# Altium footprint library EReference-PCB.PcbLib: 54 footprints (part 2 of 4)
Each footprint in its own frame and in the unit in brackets; x right, y up, seen from the top. Pads: shape width x height; smd on the part's side, far side on the other; paste and mask are expansions set on the pad; w line width, h text height; cw(c..) or ccw(c..) is an arc to the next point about the centre after c.
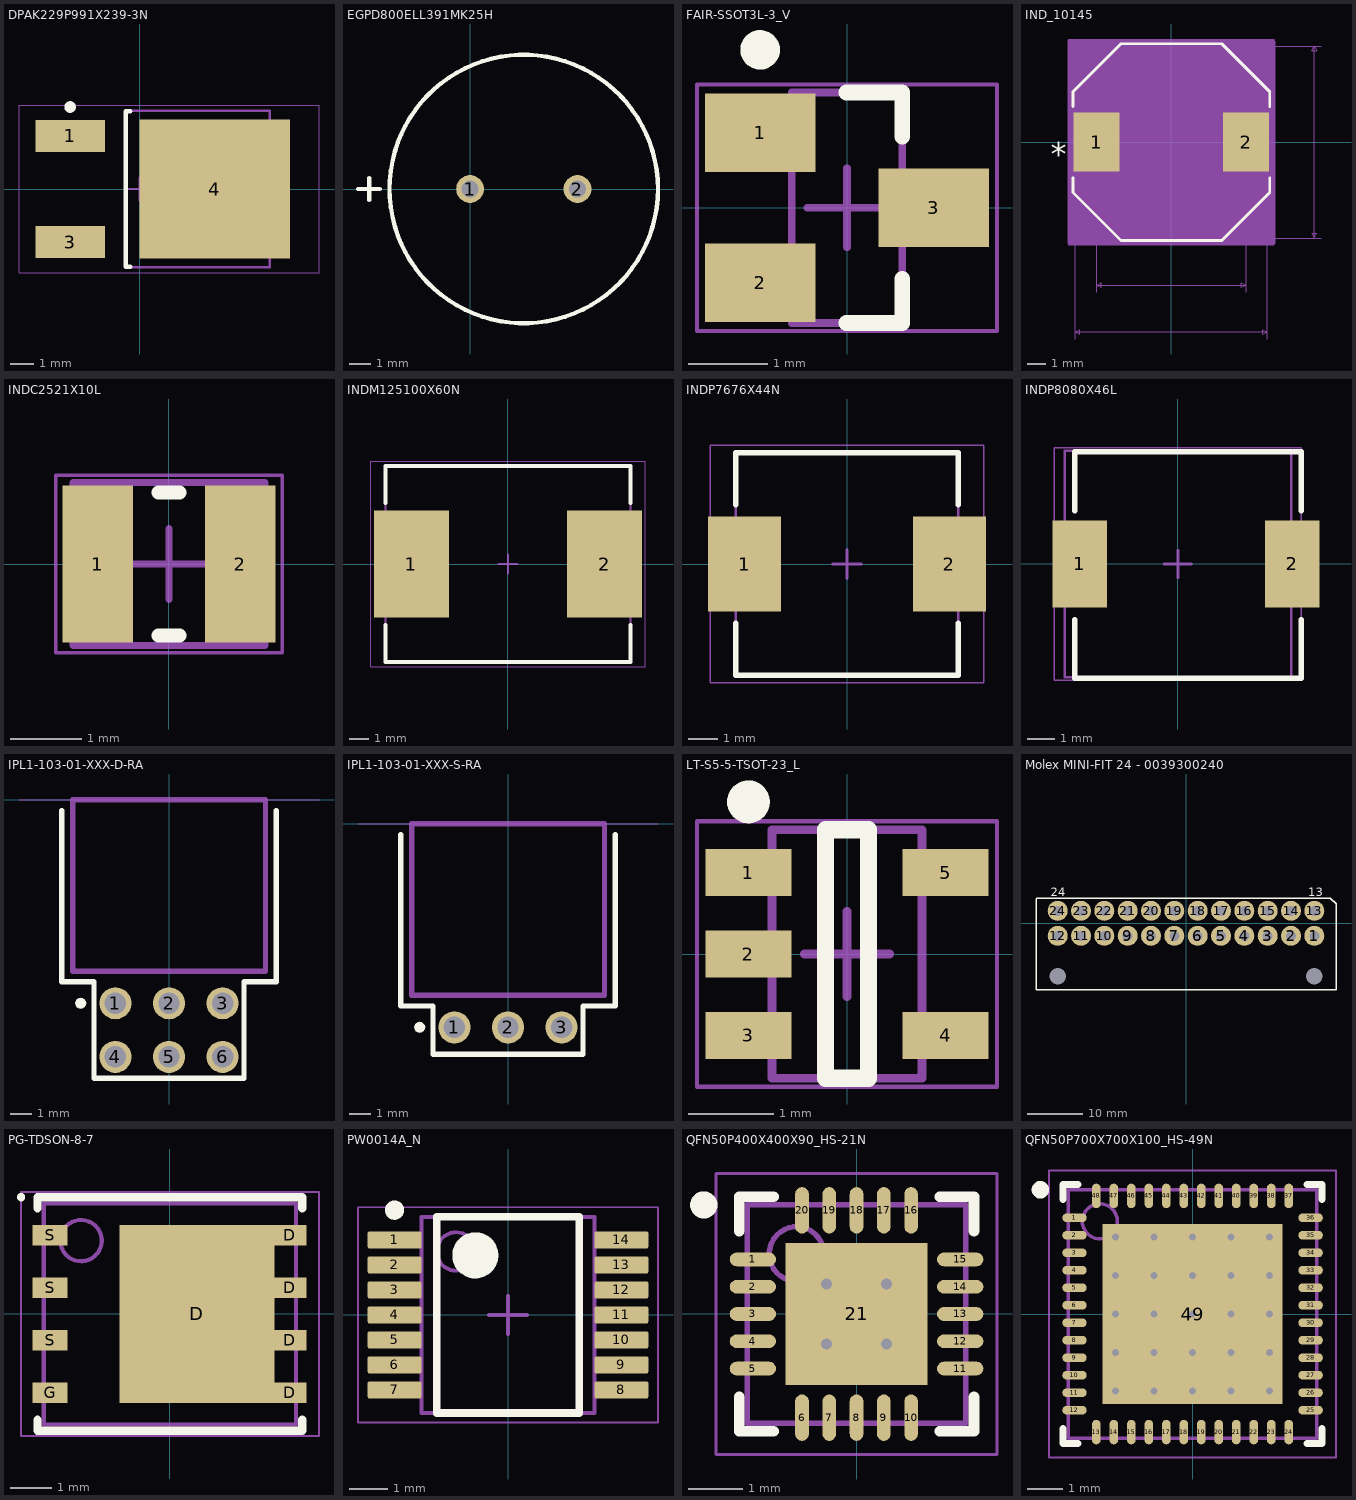
[diagram p1: the footprints below, top view; thin cyan lines are the x and y axes]

## DPAK229P991X239-3N [mm] "D-PAK, 3-Pads, Body 6.21x6.73mm (max), IPC Medium Density"
height 2.39
pads (3):
  rect 3x1.4 smd: 1(-3,2.29) 3(-3,-2.29)
  rect 6.5x6 smd: 4(3.25,0)
Top Overlay:
  circle w0.25: c-3,3.54 r0.125
  lines w0.2: -0.4,-3.35 -0.6,-3.35 -0.6,3.35 -0.4,3.35
Assembly:
  lines w0.1: -0.6,-3.375 5.62,-3.375 5.62,3.375 -0.6,3.375 -0.6,-3.375
Mechanical 15:
  lines w0.05: -5.207,-3.625 7.747,-3.625 7.747,3.625 -5.207,3.625 -5.207,-3.625
  lines w0.1: -0.5,0 0.5,0 ; 0,-0.5 0,0.5
3D body "DPAK229P991X239-3N.step": height 2.39, standoff 0, extent -2.44,-3.375 7.465,3.375

## EGPD800ELL391MK25H [mm]
pads (2):
  round 1.3 hole 0.8: 1(0,0) 2(5,0)
Top Overlay:
  circle w0.2: c2.5,0 r6.25
  lines w0.2: -5.22,0 -4.204,0 ; -4.699,-0.508 -4.699,0.508

## FAIR-SSOT3L-3_V [mm] "SOT23, 3-Leads, Body 2.92x1.4mm, Pitch 0.95mm"
height 1.12
pads (3):
  rect 1.4x1 smd: 1(-1.1,0.95) 2(-1.1,-0.95) 3(1.1,0)
Top Overlay:
  circle w0.25: c-1.1,2 r0.125
  lines w0.2: -0.006,-1.46 0.7,-1.46 0.7,-0.9 ; -0.006,1.46 0.7,1.46 0.7,0.9
Assembly:
  lines w0.1: -0.7,-1.46 -0.7,1.46 0.7,1.46 0.7,-1.46 -0.7,-1.46
Mechanical 15:
  lines w0.05: -1.9,-1.56 -1.9,1.56 1.9,1.56 1.9,-1.56 -1.9,-1.56
  lines w0.1: -0.5,0 0.5,0 ; 0,-0.5 0,0.5
3D body "FAIR-SSOT3L-3_V.stp": height 1.12, standoff 0, extent -1.26,-1.46 1.26,1.46

## IND_10145 [mm]
pads (2):
  rect 2.5x3.2 smd paste+0 mask+0: 1(-4.05,0) 2(4.05,0)
Top Overlay:
  lines w0.152: -5.327,-1.932 -5.327,-2.727 -2.727,-5.327 2.727,-5.327 5.327,-2.727 5.327,-1.932 ; -5.327,1.932 -5.327,2.727 -2.727,5.327 2.727,5.327 5.327,2.727 5.327,1.932
  text "*" at -6.533,-1.27 h1.27
Courtyard Top:
  region: -5.581,5.581 5.581,5.581 5.581,-5.581 -5.581,-5.581
3D Body Top:
  lines w0.025: -5.2,-10.661 -5.2,-5.2 ; -4.05,-8.121 -4.05,0 ; 4.05,-8.121 4.05,0 ; 5.2,-10.661 5.2,-5.2 8.121,-5.2 ; 5.2,5.2 8.121,5.2 ; -5.2,-10.28 -4.946,-10.407 -4.946,-10.153 -5.2,-10.28 ; -5.2,-10.28 5.2,-10.28 ; -4.05,-7.74 -3.796,-7.867 -3.796,-7.613 -4.05,-7.74 ; -4.05,-7.74 4.05,-7.74 ; 4.05,-7.74 3.796,-7.867 3.796,-7.613 4.05,-7.74 ; 5.2,-10.28 4.946,-10.407 4.946,-10.153 5.2,-10.28 ; 7.74,-5.2 7.867,-4.946 7.613,-4.946 7.74,-5.2 ; 7.74,-5.2 7.74,5.2 ; 7.74,5.2 7.867,4.946 7.613,4.946 7.74,5.2
  text "0.409in/10.4mm" at -2.222,-11.423 h0.64
  text "0.409in/10.4mm" at 8.248,4.882 h0.64
  text "0.319in/8.1mm" at -2.064,-8.883 h0.64
  text "Alt 2 Padstyle: OX90Y60D30P" at -8.572,-17.9 h1.27
  text "Alt 1 Padstyle: OX60Y90D30P" at -8.572,-15.995 h1.27
  text "Default Padstyle: RX98p43Y125p98D0T" at -11.112,-14.09 h1.27
Assembly:
  lines w0.025: -5.2,-2.6 -2.6,-5.2 2.6,-5.2 5.2,-2.6 5.2,2.6 2.6,5.2 -2.6,5.2 -5.2,2.6 -5.2,-2.6
  text "*" at -5.009,-1.27 h1.27
Mechanical 15:
  region: 5.554,-5.454 -5.554,-5.454 -5.554,5.454 5.554,5.454
  lines w0.152: -5.554,-5.454 5.554,-5.454 5.554,5.454 -5.554,5.454 -5.554,-5.454
3D body: height 0.25, standoff 0, extent 0,0 0.254,0.254

## INDC2521X10L [mm] "Chip Inductor, 2-Leads, Body 2.50x2.10mm, IPC High Density"
height 1
pads (2):
  rect 0.99x2.22 smd: 1(-1.005,0) 2(1.005,0)
Top Overlay:
  lines w0.2: -0.15,-1.01 0.15,-1.01 ; -0.15,1.01 0.15,1.01
Assembly:
  lines w0.1: -1.35,-1.15 -1.35,1.15 1.35,1.15 1.35,-1.15 -1.35,-1.15
Mechanical 15:
  lines w0.05: -1.6,-1.25 -1.6,1.25 1.6,1.25 1.6,-1.25 -1.6,-1.25
  lines w0.1: -0.5,0 0.5,0 ; 0,-0.5 0,0.5
3D body "INDC2521X10L.step": height 1, standoff 0, extent -1.35,-1.15 1.35,1.15

## INDM125100X60N [mm] "Molded Inductor, 2-Leads, Body 12.50x10.00mm, IPC Medium Density"
height 6
pads (2):
  rect 3.85x5.5 smd: 1(-4.975,0) 2(4.975,0)
Top Overlay:
  lines w0.2: -6.3,-3.15 -6.3,-5.05 6.3,-5.05 6.3,-3.15 ; -6.3,3.15 -6.3,5.05 6.3,5.05 6.3,3.15
Assembly:
  lines w0.1: -6.3,-5.05 -6.3,5.05 6.3,5.05 6.3,-5.05 -6.3,-5.05
Mechanical 15:
  lines w0.05: -7.075,-5.3 -7.075,5.3 7.075,5.3 7.075,-5.3 -7.075,-5.3
  lines w0.1: -0.5,0 0.5,0 ; 0,-0.5 0,0.5
3D body "INDM125100X60N.step": height 6, standoff 0, extent -6.52,-5.05 6.52,5.05

## INDP7676X44N [mm] "Precision Wire Wound Inductor, 2-Leads, Body 7.60x7.60mm, IPC Medium Density"
height 4.35
pads (2):
  rect 2.5x3.25 smd: 1(-3.5,0) 2(3.5,0)
Top Overlay:
  lines w0.2: -3.8,-2.025 -3.8,-3.8 3.8,-3.8 3.8,-2.025 ; -3.8,2.025 -3.8,3.8 3.8,3.8 3.8,2.025
Assembly:
  lines w0.1: -3.8,-3.8 -3.8,3.8 3.8,3.8 3.8,-3.8 -3.8,-3.8
Mechanical 15:
  lines w0.05: -4.675,-4.05 -4.675,4.05 4.675,4.05 4.675,-4.05 -4.675,-4.05
  lines w0.1: -0.5,0 0.5,0 ; 0,-0.5 0,0.5
3D body: height 4.35, standoff 0, extent -3.8,-3.8 3.8,3.8

## INDP8080X46L [mm] "Precision Wire Wound Inductor, 2-Leads, Body 8.00x8.00mm, IPC High Density"
height 4.6
pads (2):
  rect 2x3.2 smd: 1(-3.6,0) 2(4.191,0)
Top Overlay:
  lines w0.2: -3.775,-2.041 -3.775,-4.191 4.525,-4.191 4.525,-2.041 ; -3.775,1.959 -3.775,4.109 4.525,4.109 4.525,1.959
Assembly:
  lines w0.1: -4.15,-4.15 4.15,-4.15 4.15,4.15 -4.15,4.15 -4.15,-4.15
Mechanical 15:
  lines w0.05: -4.525,-4.25 4.525,-4.25 4.525,4.25 -4.525,4.25 -4.525,-4.25
  lines w0.1: -0.5,0 0.5,0 ; 0,-0.5 0,0.5
3D body "INDP8080X46L.step": height 4.7, standoff 0, extent -4.1,-4 4.1,4

## IPL1-103-01-XXX-D-RA [mil]
pads (6):
  round 60 hole 40 mask+3: 1(-100,-380) 2(0,-380) 3(100,-380) 4(-100,-480) 5(0,-480) 6(100,-480)
Top Overlay:
  region: -154.8,-380 -155.58,-376.1 -157.79,-372.79 -161.1,-370.58 -165,-369.8 -168.9,-370.58 -172.21,-372.79 -174.42,-376.1 -175.2,-380 -174.42,-383.9 -172.21,-387.21 -168.9,-389.42 -165,-390.2 -161.1,-389.42 -157.79,-387.21 -155.58,-383.9
  lines w10: -200,-20 -200,-340 -140,-340 -140,-520 140,-520 140,-340 200,-340 200,-20
Mechanical 1:
  lines w10: -180,-320 180,-320 180,0 -180,0 -180,-320
  text "J1" at -17.57,-168 h30
Mechanical 16:
  lines w0.1: -280,0 280,0
3D body "IPL1-103-01-L-D-RA-K.stp": height 310, standoff -85, extent -177.5,-492.5 182.5,0

## IPL1-103-01-XXX-S-RA [mil]
pads (3):
  round 60 hole 40 mask+3: 1(-100,-380) 2(0,-380) 3(100,-380)
Top Overlay:
  region: -154.8,-380 -155.58,-376.1 -157.79,-372.79 -161.1,-370.58 -165,-369.8 -168.9,-370.58 -172.21,-372.79 -174.42,-376.1 -175.2,-380 -174.42,-383.9 -172.21,-387.21 -168.9,-389.42 -165,-390.2 -161.1,-389.42 -157.79,-387.21 -155.58,-383.9
  lines w10: -200,-20 -200,-340 -140,-340 -140,-430 -70,-430 70,-430 140,-430 140,-340 200,-340 200,-20
Mechanical 1:
  lines w10: -180,-320 180,-320 180,0 -180,0 -180,-320
  text "J1" at -17.57,-168 h30
Mechanical 16:
  lines w0.1: -280,0 280,0
3D body "IPL1-103-01-L-S-RA-K.stp": height 260, standoff -85, extent -179.99,-397.49 180.01,-4.99

## LT-S5-5-TSOT-23_L [mm] "SOT23, 5-Leads, Body 2.90x1.63mm, Pitch 0.95mm, IPC High Density"
height 1
pads (5):
  rect 1x0.55 smd: 1(-1.15,0.95) 2(-1.15,0) 3(-1.15,-0.95) 4(1.15,-0.95) 5(1.15,0.95)
Top Overlay:
  circle w0.25: c-1.15,1.775 r0.125
  lines w0.2: -0.25,-1.45 0.25,-1.45 0.25,1.45 -0.25,1.45 -0.25,-1.45
Assembly:
  lines w0.1: -0.875,-1.45 -0.875,1.45 0.875,1.45 0.875,-1.45 -0.875,-1.45
Mechanical 15:
  lines w0.05: -1.75,-1.55 -1.75,1.55 1.75,1.55 1.75,-1.55 -1.75,-1.55
  lines w0.1: -0.5,0 0.5,0 ; 0,-0.5 0,0.5
3D body: height 1, standoff 0.01, extent -0.875,-1.45 0.875,1.45

## Molex MINI-FIT 24 - 0039300240 [mm] "Mini fit family 24 pin connector right angle from Molex"
height 9.6
pads (26):
  round 3.6 hole 1.8: 1(23.1,-2.25) 2(18.9,-2.25) 3(14.7,-2.25) 4(10.5,-2.25) 5(6.3,-2.25) 6(2.1,-2.25) 7(-2.1,-2.25) 8(-6.3,-2.25) 9(-10.5,-2.25) 10(-14.7,-2.25) 11(-18.9,-2.25) 12(-23.1,-2.25) 13(23.1,2.25) 14(18.9,2.25) 15(14.7,2.25) 16(10.5,2.25) 17(6.3,2.25) 18(2.1,2.25) 19(-2.1,2.25) 20(-6.3,2.25) 21(-10.5,2.25) 22(-14.7,2.25) 23(-18.9,2.25) 24(-23.1,2.25)
  round 1.524 hole 3: ""(-23.1,-9.55) ""(23.1,-9.55)
Top Overlay:
  lines w0.254: -27,4.445 -27,-12 27,-12 27,3.5 26,4.5 -27,4.5
  text "24" at -24.384,4.826 h1.52
  text "13" at 21.971,4.826 h1.52
3D body "039300240.stp": height 11.4, standoff -3.6, extent -26,-16.8 26,3.135
3D body: height 0.25, standoff 0, extent 2.1,8.4 2.1,8.4

## PG-TDSON-8-7 [mm]
height 1.1
pads (9):
  rect 3.75x4.315 smd paste+0: D(0.65,0)
  rect 0.8x0.5 smd: D(2.9,-1.905) D(2.9,-0.635) D(2.9,0.635) D(2.9,1.905)
  rect 0.85x0.5 smd: G(-2.9,-1.905) S(-2.9,-0.635) S(-2.9,0.635) S(-2.9,1.905)
Top Overlay:
  circle w0.1: c-3.6,2.825 r0.05
  lines w0.2: -3.2,-2.555 -3.2,-2.825 3.2,-2.825 3.2,-2.555 ; -3.2,2.555 -3.2,2.825 3.2,2.825 3.2,2.555
Assembly:
  circle w0.1: c-2.15,1.775 r0.5
  lines w0.1: -3.05,-2.675 3.05,-2.675 3.05,2.675 -3.05,2.675 -3.05,-2.675
Mechanical 15:
  lines w0.05: -3.605,-2.95 3.605,-2.95 3.605,2.95 -3.605,2.95 -3.605,-2.95
  lines w0.1: -0.5,0 0.5,0 ; 0,-0.5 0,0.5
3D body "PG-TDSON-8-7  .step": height 1.1, standoff 0, extent -3.1,-2.675 3.1,2.675

## PW0014A_N [mm] "SOP, 14-Leads, Body 5.1x4.5mm, Pitch 0.65mm, IPC Medium Density"
height 1.2
pads (14):
  rrect22% 1.4x0.45 smd: 1(-2.95,1.95) 2(-2.95,1.3) 3(-2.95,0.65) 4(-2.95,0) 5(-2.95,-0.65) 6(-2.95,-1.3) 7(-2.95,-1.95) 8(2.95,-1.95) 9(2.95,-1.3) 10(2.95,-0.65) 11(2.95,0) 12(2.95,0.65) 13(2.95,1.3) 14(2.95,1.95)
Top Overlay:
  circle w0.25: c-2.95,2.725 r0.125
  circle w0.6: c-0.85,1.55 r0.3
  lines w0.2: -1.85,-2.55 -1.85,2.55 1.85,2.55 1.85,-2.55 -1.85,-2.55
Mechanical 1:
  text ".Designator" at -1.524,-0.508 h1.02
Assembly:
  circle w0.1: c-1.35,1.65 r0.5
  lines w0.1: -2.25,-2.55 -2.25,2.55 2.25,2.55 2.25,-2.55 -2.25,-2.55
Mechanical 15:
  lines w0.05: -3.9,-2.8 -3.9,2.8 3.9,2.8 3.9,-2.8 -3.9,-2.8
  lines w0.1: -0.5,0 0.5,0 ; 0,-0.5 0,0.5
3D body "PW0014AakaMTC14.stp": height 1, standoff 0, extent -3.21,-2.5 3.21,2.5

## QFN50P400X400X90_HS-21N [mm] "QFN, 20-Leads, Body 4.00x4.00mm, Pitch 0.50mm, Thermal Pad 2.60x2.60mm, IPC Medium Density"
height 0.9
pads (21):
  oval 0.85x0.25 smd: 1(-1.9,1) 2(-1.9,0.5) 3(-1.9,0) 4(-1.9,-0.5) 5(-1.9,-1) 11(1.9,-1) 12(1.9,-0.5) 13(1.9,0) 14(1.9,0.5) 15(1.9,1)
  oval 0.25x0.85 smd: 6(-1,-1.9) 7(-0.5,-1.9) 8(0,-1.9) 9(0.5,-1.9) 10(1,-1.9) 16(1,1.9) 17(0.5,1.9) 18(0,1.9) 19(-0.5,1.9) 20(-1,1.9)
  rect 2.6x2.6 smd: 21(0,0)
via -0.55,0.55 diameter 0.5 hole 0.2
via 0.55,0.55 diameter 0.5 hole 0.2
via -0.55,-0.55 diameter 0.5 hole 0.2
via 0.55,-0.55 diameter 0.5 hole 0.2
Top Overlay:
  circle w0.25: c-2.8,2 r0.125
  lines w0.2: -2.15,-1.525 -2.15,-2.15 -1.525,-2.15 ; -2.15,1.525 -2.15,2.15 -1.525,2.15 ; 1.525,-2.15 2.15,-2.15 2.15,-1.525 ; 1.525,2.15 2.15,2.15 2.15,1.525
Assembly:
  circle w0.1: c-1.1,1.1 r0.5
  lines w0.1: -2,-2 -2,2 2,2 2,-2 -2,-2
Mechanical 15:
  lines w0.05: -2.575,-2.575 -2.575,2.575 2.575,2.575 2.575,-2.575 -2.575,-2.575
  lines w0.1: -0.5,0 0.5,0 ; 0,-0.5 0,0.5
3D body "QFN50P400X400X90_HS-21N.step": height 0.9, standoff 0, extent -2.001,-2.001 2.001,2.001

## QFN50P700X700X100_HS-49N [mm] "QFN, 48-Leads, Body 7.00x7.00mm, Pitch 0.50mm, Thermal Pad 5.15x5.15mm, IPC Medium Density"
height 1
pads (49):
  oval 0.7x0.25 smd: 1(-3.375,2.75) 2(-3.375,2.25) 3(-3.375,1.75) 4(-3.375,1.25) 5(-3.375,0.75) 6(-3.375,0.25) 7(-3.375,-0.25) 8(-3.375,-0.75) 9(-3.375,-1.25) 10(-3.375,-1.75) 11(-3.375,-2.25) 12(-3.375,-2.75) 25(3.375,-2.75) 26(3.375,-2.25) 27(3.375,-1.75) 28(3.375,-1.25) 29(3.375,-0.75) 30(3.375,-0.25) 31(3.375,0.25) 32(3.375,0.75) 33(3.375,1.25) 34(3.375,1.75) 35(3.375,2.25) 36(3.375,2.75)
  oval 0.25x0.7 smd: 13(-2.75,-3.375) 14(-2.25,-3.375) 15(-1.75,-3.375) 16(-1.25,-3.375) 17(-0.75,-3.375) 18(-0.25,-3.375) 19(0.25,-3.375) 20(0.75,-3.375) 21(1.25,-3.375) 22(1.75,-3.375) 23(2.25,-3.375) 24(2.75,-3.375) 37(2.75,3.375) 38(2.25,3.375) 39(1.75,3.375) 40(1.25,3.375) 41(0.75,3.375) 42(0.25,3.375) 43(-0.25,3.375) 44(-0.75,3.375) 45(-1.25,3.375) 46(-1.75,3.375) 47(-2.25,3.375) 48(-2.75,3.375)
  rect 5.15x5.15 smd: 49(0,0)
via 2.2,-2.2 diameter 0.5 hole 0.2
via 1.1,-2.2 diameter 0.5 hole 0.2
via 0,-2.2 diameter 0.5 hole 0.2
via -1.1,-2.2 diameter 0.5 hole 0.2
via -2.2,-2.2 diameter 0.5 hole 0.2
via 2.2,-1.1 diameter 0.5 hole 0.2
via 1.1,-1.1 diameter 0.5 hole 0.2
via 0,-1.1 diameter 0.5 hole 0.2
via -1.1,-1.1 diameter 0.5 hole 0.2
via -2.2,-1.1 diameter 0.5 hole 0.2
via 2.2,0 diameter 0.5 hole 0.2
via 1.1,0 diameter 0.5 hole 0.2
via 0,0 diameter 0.5 hole 0.2
via -1.1,0 diameter 0.5 hole 0.2
via -2.2,0 diameter 0.5 hole 0.2
via 2.2,1.1 diameter 0.5 hole 0.2
via 1.1,1.1 diameter 0.5 hole 0.2
via 0,1.1 diameter 0.5 hole 0.2
via -1.1,1.1 diameter 0.5 hole 0.2
via -2.2,1.1 diameter 0.5 hole 0.2
via 2.2,2.2 diameter 0.5 hole 0.2
via 1.1,2.2 diameter 0.5 hole 0.2
via 0,2.2 diameter 0.5 hole 0.2
via -1.1,2.2 diameter 0.5 hole 0.2
via -2.2,2.2 diameter 0.5 hole 0.2
Top Overlay:
  circle w0.25: c-4.35,3.55 r0.125
  lines w0.2: -3.7,-3.275 -3.7,-3.7 -3.275,-3.7 ; -3.7,3.275 -3.7,3.7 -3.275,3.7 ; 3.275,-3.7 3.7,-3.7 3.7,-3.275 ; 3.275,3.7 3.7,3.7 3.7,3.275
Assembly:
  circle w0.1: c-2.65,2.65 r0.5
  lines w0.1: -3.55,-3.55 3.55,-3.55 3.55,3.55 -3.55,3.55 -3.55,-3.55
Mechanical 15:
  lines w0.05: -4.1,-4.1 4.1,-4.1 4.1,4.1 -4.1,4.1 -4.1,-4.1
  lines w0.1: -0.5,0 0.5,0 ; 0,-0.5 0,0.5
3D body "QFN50P700X700X100_HS-49N.step": height 1, standoff 0, extent -3.551,-3.551 3.551,3.551